# Altium footprint library PcbLib1.PcbLib: 22 footprints (part 2 of 2)
Each footprint in its own frame and in the unit in brackets; x right, y up, seen from the top. Pads: shape width x height; smd on the part's side, far side on the other; paste and mask are expansions set on the pad; w line width, h text height; cw(c..) or ccw(c..) is an arc to the next point about the centre after c.
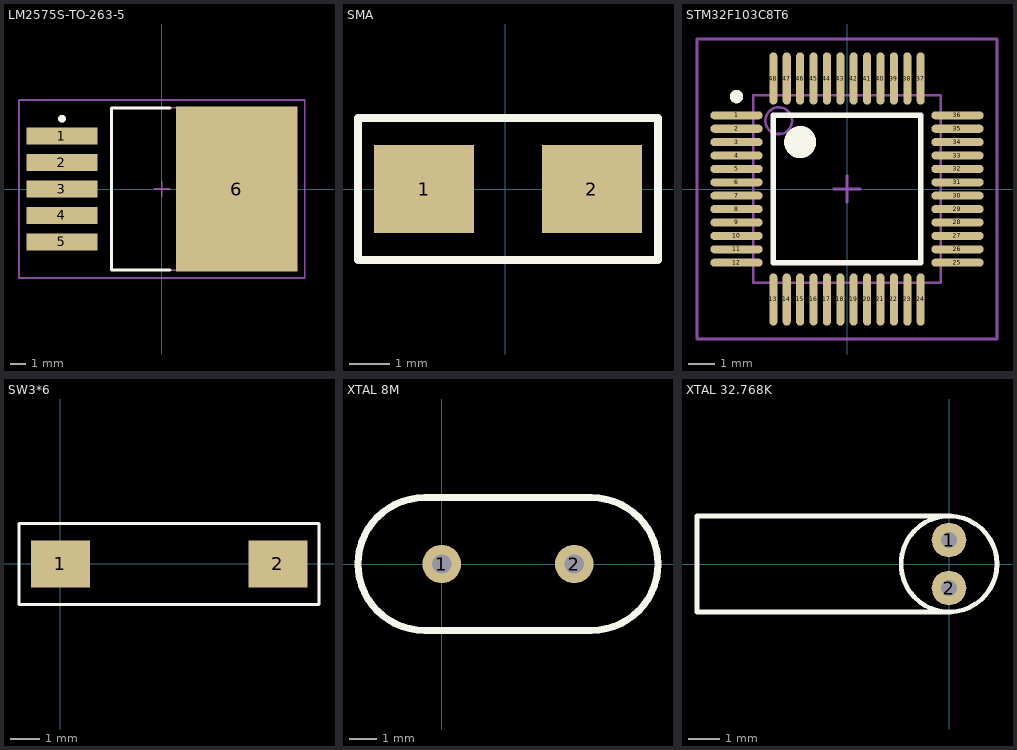
[diagram p1: the footprints below, top view; thin cyan lines are the x and y axes]

## LM2575S-TO-263-5 [mm] "D2-PAK, 6-Pads, Body 9.7x10.3mm (max), IPC Low Density"
height 4.83
pads (6):
  rect 4.5x1.1 smd: 1(-6.35,3.36) 2(-6.35,1.68) 3(-6.35,0) 4(-6.35,-1.68) 5(-6.35,-3.36)
  rect 7.7x10.45 smd: 6(4.75,0)
Top Overlay:
  circle w0.25: c-6.35,4.46 r0.125
  lines w0.2: 0.5,-5.15 -3.2,-5.15 -3.2,5.15 0.5,5.15
Mechanical 13:
  lines w0.1: -3.2,-5.15 6.46,-5.15 6.46,5.15 -3.2,5.15 -3.2,-5.15
Mechanical 15:
  lines w0.1: -0.5,0 0.5,0 ; 0,-0.5 0,0.5 ; -9.075,-5.65 9.075,-5.65 9.075,5.65 -9.075,5.65 -9.075,-5.65
3D body: height 4.83, standoff 0, extent -3.2,-5.15 6.46,5.15

## SMA [mm]
pads (2):
  rect 2.5x2.2 smd: 1(-2.032,0) 2(2.159,0)
Top Overlay:
  lines w0.2: -3.683,-1.778 -1.81,-1.778 1.937,-1.778 3.81,-1.778 3.81,1.778 -3.683,1.778 -3.683,0.261 -3.683,-1.778

## STM32F103C8T6 [mm] "TSQFP, 48-Leads, Body 9.0x9.0mm (max), Pitch 0.50mm, IPC Low Density"
height 1.6
pads (48):
  oval 1.95x0.3 smd: 1(-4.125,2.75) 2(-4.125,2.25) 3(-4.125,1.75) 4(-4.125,1.25) 5(-4.125,0.75) 6(-4.125,0.25) 7(-4.125,-0.25) 8(-4.125,-0.75) 9(-4.125,-1.25) 10(-4.125,-1.75) 11(-4.125,-2.25) 12(-4.125,-2.75) 25(4.125,-2.75) 26(4.125,-2.25) 27(4.125,-1.75) 28(4.125,-1.25) 29(4.125,-0.75) 30(4.125,-0.25) 31(4.125,0.25) 32(4.125,0.75) 33(4.125,1.25) 34(4.125,1.75) 35(4.125,2.25) 36(4.125,2.75)
  oval 0.3x1.95 smd: 13(-2.75,-4.125) 14(-2.25,-4.125) 15(-1.75,-4.125) 16(-1.25,-4.125) 17(-0.75,-4.125) 18(-0.25,-4.125) 19(0.25,-4.125) 20(0.75,-4.125) 21(1.25,-4.125) 22(1.75,-4.125) 23(2.25,-4.125) 24(2.75,-4.125) 37(2.75,4.125) 38(2.25,4.125) 39(1.75,4.125) 40(1.25,4.125) 41(0.75,4.125) 42(0.25,4.125) 43(-0.25,4.125) 44(-0.75,4.125) 45(-1.25,4.125) 46(-1.75,4.125) 47(-2.25,4.125) 48(-2.75,4.125)
Top Overlay:
  circle w0.6: c-1.75,1.75 r0.3
  circle w0.25: c-4.125,3.45 r0.125
  lines w0.2: -2.75,-2.75 2.75,-2.75 2.75,2.75 -2.75,2.75 -2.75,-2.75
Mechanical 13:
  circle w0.1: c-2.55,2.55 r0.5
  lines w0.1: -3.5,-3.5 3.5,-3.5 3.5,3.5 -3.5,3.5 -3.5,-3.5
Mechanical 15:
  lines w0.1: -0.5,0 0.5,0 ; 0,-0.5 0,0.5 ; -5.6,-5.6 5.6,-5.6 5.6,5.6 -5.6,5.6 -5.6,-5.6
3D body: height 1.6, standoff 0.05, extent -3.5,-3.5 3.5,3.5

## SW3*6 [mm]
pads (2):
  rect 2x1.6 smd: 1(0,0) 2(7.366,0)
Top Overlay:
  lines w0.1: -1.403,-1.375 -1.403,1.375 8.763,1.375 8.763,-1.375 -1.403,-1.375

## XTAL 8M [mm] "pin: 0.43,  pin2pin: 4.88, size: 11.05*4.7"
pads (2):
  round 1.4 hole 0.7: 1(0,0) 2(4.826,0)
Top Overlay:
  lines w0.254: -0.635,-2.413 cw(c-0.635,0) -0.635,2.413 5.461,2.413 cw(c5.461,0) 5.461,-2.413 -0.635,-2.413

## XTAL 32.768K [mm] "3*8"
pads (2):
  round 1.1 hole 0.5: 1(0,0.762) 2(0,-0.762)
Top Overlay:
  circle w0.15: c0,0 r1.524
  lines w0.15: 0,-1.524 -8.001,-1.524 -8.001,1.524 0,1.524